# Altium footprint library SOT8.PcbLib: 1 footprints
Each footprint in its own frame and in the unit in brackets; x right, y up, seen from the top. Pads: shape width x height; smd on the part's side, far side on the other; paste and mask are expansions set on the pad; w line width, h text height; cw(c..) or ccw(c..) is an arc to the next point about the centre after c.
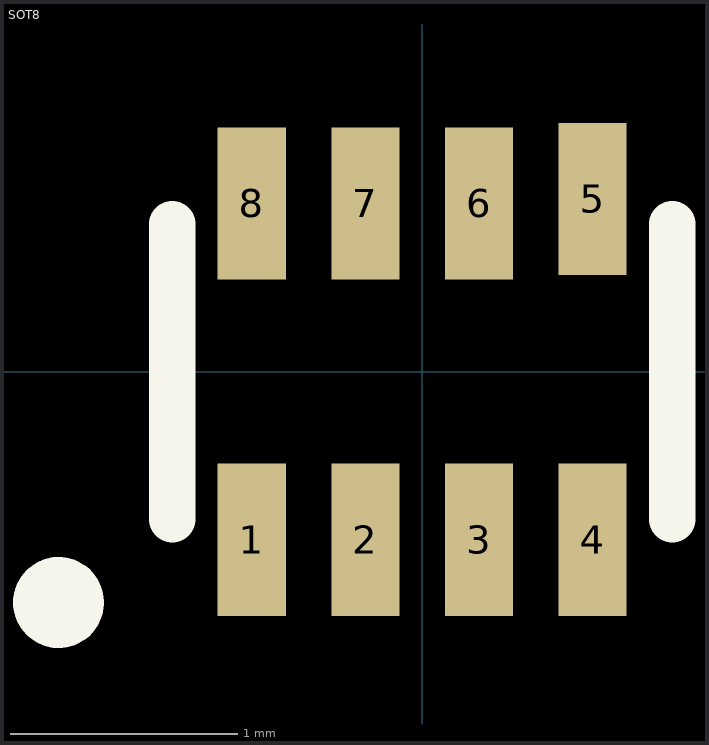
[diagram p0: the footprint, top view; thin cyan lines are the x and y axes]

## SOT8 [mm]
pads (8):
  rect 0.3x0.67 smd: 1(-0.75,-0.74) 2(-0.25,-0.74) 3(0.25,-0.74) 4(0.75,-0.74) 5(0.75,0.76) 6(0.25,0.74) 7(-0.25,0.74) 8(-0.75,0.74)
Top Overlay:
  circle w0.2: c-1.6,-1.016 r0.1
  lines w0.203: -1.1,-0.65 -1.1,0.65 ; 1.1,-0.65 1.1,0.65
3D body "step_temp.STEP": height 0.6, standoff 0, extent -0.8,-1.05 0.8,1.05